# Altium footprint library TVS3V3.PcbLib: 1 footprints
Each footprint in its own frame and in the unit in brackets; x right, y up, seen from the top. Pads: shape width x height; smd on the part's side, far side on the other; paste and mask are expansions set on the pad; w line width, h text height; cw(c..) or ccw(c..) is an arc to the next point about the centre after c.
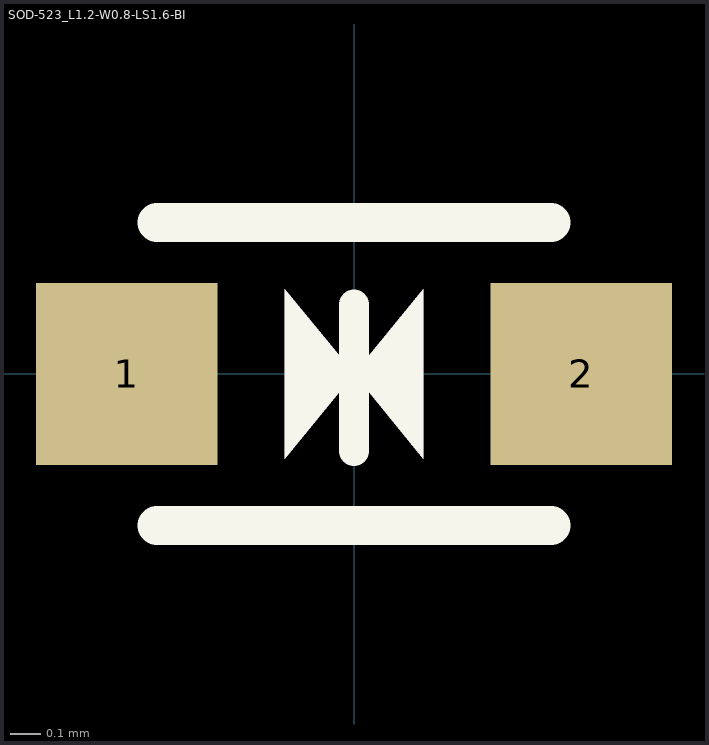
[diagram p0: the footprint, top view; thin cyan lines are the x and y axes]

## SOD-523_L1.2-W0.8-LS1.6-BI [mm]
pads (2):
  rect 0.6x0.6 smd: 1(-0.75,0) 2(0.75,0)
Top Overlay:
  region: 0,0 -0.229,-0.279 -0.229,0.279
  region: 0,0 0.229,0.279 0.229,-0.279
  lines w0.1: 0,-0.254 0,0.229
  lines w0.13: -0.65,-0.5 0.65,-0.5 ; -0.65,0.5 0.65,0.5
Mechanical 15:
  region: 0.229,0.279 0.229,-0.279 0,0
  region: -0.229,0.279 -0.229,-0.279 0,0